# EAGLE library part PIC_PROG (library maxorig)
2x3 0.1' connector for programming and debugging PIC MCUs. PGM/LVP pin can be used for alternate modes if not required by target MCU
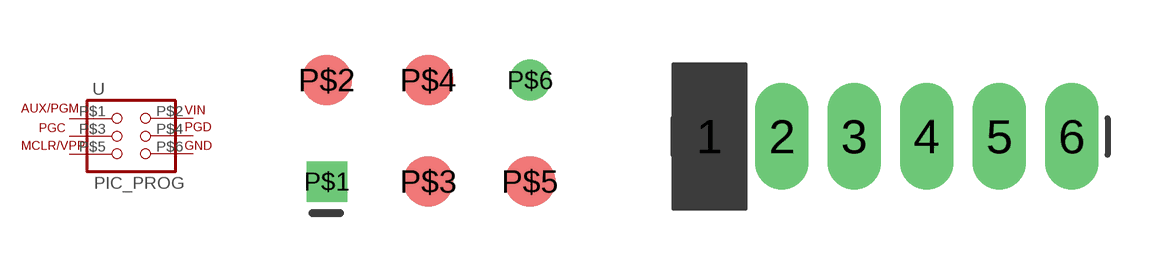
[diagram p7: symbol with the pads of 2X3_MAX; footprints 2X3_MAX, 1X06_LONGPADS]

Designator prefix -

## PIC_PROGPOGO  [2X3_MAX]
P$1  AUX/PGM  pas
P$2  VIN  pas
P$3  PGC  pas
P$4  PGD  pas
P$5  MCLR/VPP  pas
P$6  GND  pas

## PIC_PROGLONG  [1X06_LONGPADS]
1  MCLR/VPP  pas
2  VIN  pas
3  GND  pas
4  PGD  pas
5  PGC  pas
6  AUX/PGM  pas

## PIC_PROGREG  [1X06]
Pads as for 1X06_LONGPADS

## Footprint 2X3_MAX (pad centres in mm)
drill 0.508 square: P$1 -2.54,-1.27
smd 1.27 x 1.27: P$2 -2.54,1.27; P$3 0,-1.27; P$4 0,1.27; P$5 2.54,-1.27
drill 0.508: P$6 2.54,1.27

## Footprint 1X06_LONGPADS (pad centres in mm)
drill 1.118 pad 1.88 long: 1 0,0; 2 2.54,0; 3 5.08,0; 4 7.62,0; 5 10.16,0; 6 12.7,0

## Footprint 1X06 (pad centres in mm)
drill 1.016 pad 1.88: 1 0,0; 2 2.54,0; 3 5.08,0; 4 7.62,0; 5 10.16,0; 6 12.7,0